# Altium schematic symbol library Diode.SchLib: 693 symbols (part 4 of 5)
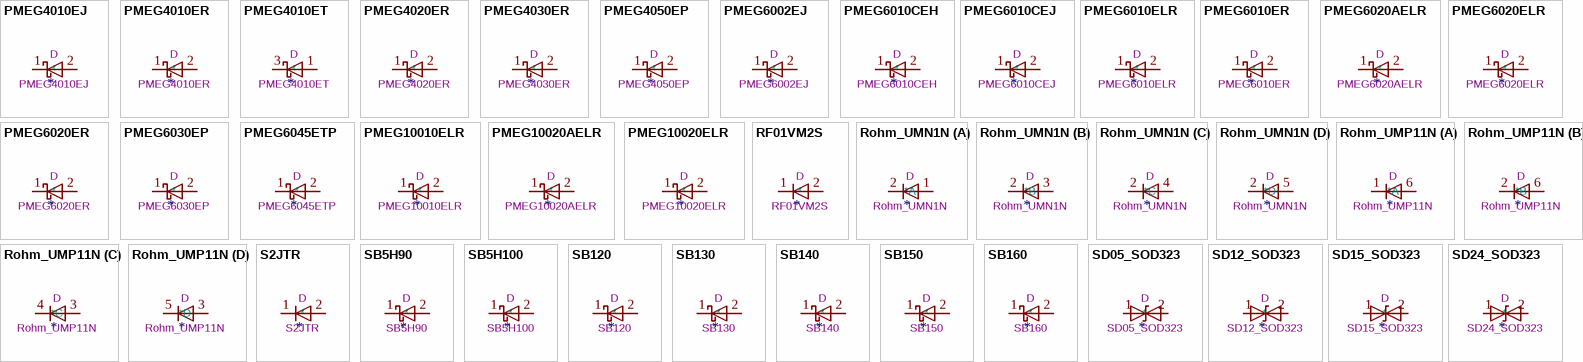
[diagram p21: symbols PMEG4010EJ to SD24_SOD323]

## SD12_SOD323
designator *  value SD12_SOD323  Reference: D
ki_keywords: transient voltage suppressor thyrector transil; ki_description: 12V, 450W Discrete Bidirectional TVS Diode, SOD-323; ki_fp_filters: D?SOD?323*; Footprint: Diode_SMD:D_SOD-323; Datasheet: https://www.littelfuse.com/~/media/electronics/datasheets/tvs_diode_arrays/littelfuse_tvs_diode_array_sd_c_datasheet.pdf.pdf
pins: 1 A1, 2 A2

## SD15_SOD323
designator *  value SD15_SOD323  Reference: D
ki_keywords: transient voltage suppressor thyrector transil; ki_description: 15V, 450W Discrete Bidirectional TVS Diode, SOD-323; ki_fp_filters: D?SOD?323*; Footprint: Diode_SMD:D_SOD-323; Datasheet: https://www.littelfuse.com/~/media/electronics/datasheets/tvs_diode_arrays/littelfuse_tvs_diode_array_sd_c_datasheet.pdf.pdf
pins: 1 A1, 2 A2

## SD24_SOD323
designator *  value SD24_SOD323  Reference: D
ki_keywords: transient voltage suppressor thyrector transil; ki_description: 24V, 450W Discrete Bidirectional TVS Diode, SOD-323; ki_fp_filters: D?SOD?323*; Footprint: Diode_SMD:D_SOD-323; Datasheet: https://www.littelfuse.com/~/media/electronics/datasheets/tvs_diode_arrays/littelfuse_tvs_diode_array_sd_c_datasheet.pdf.pdf
pins: 1 A1, 2 A2

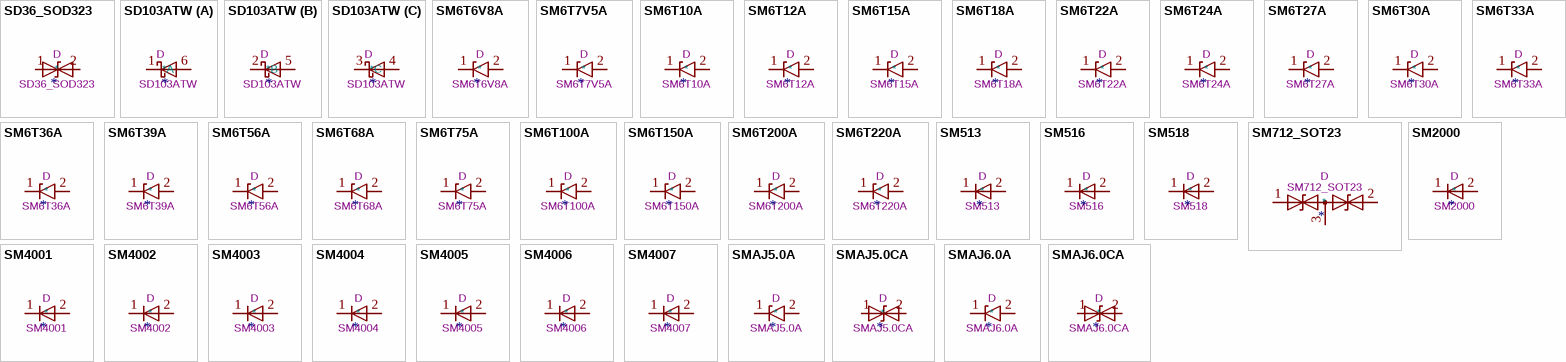
[diagram p13: symbols SD36_SOD323 to SMAJ6.0CA]

## SD36_SOD323
designator *  value SD36_SOD323  Reference: D
ki_keywords: transient voltage suppressor thyrector transil; ki_description: 36V, 450W Discrete Bidirectional TVS Diode, SOD-323; ki_fp_filters: D?SOD?323*; Footprint: Diode_SMD:D_SOD-323; Datasheet: https://www.littelfuse.com/~/media/electronics/datasheets/tvs_diode_arrays/littelfuse_tvs_diode_array_sd_c_datasheet.pdf.pdf
pins: 1 A1, 2 A2

## SD103ATW
designator *  value SD103ATW  Reference: D
ki_keywords: schottky barrier diode array; ki_description: Schottky Barrier Diode Array, SOT-363; ki_fp_filters: SOT?363*; Footprint: Package_TO_SOT_SMD:SOT-363_SC-70-6; Datasheet: https://www.diodes.com/assets/Datasheets/ds30374.pdf
part A pins: 1 K, 6 A
part B pins: 2 K, 5 A
part C pins: 3 K, 4 A

## SM6T6V8A
designator *  value SM6T6V8A  Reference: D
ki_keywords: diode TVS voltage suppressor; ki_description: 600W unidirectional Transil Transient Voltage Suppressor, 6.8Vrwm, DO-214AA; ki_fp_filters: D*SMB*; Footprint: Diode_SMD:D_SMB; Datasheet: https://www.st.com/resource/en/datasheet/sm6t.pdf
pins: 1 A1, 2 A2

## SM6T7V5A
designator *  value SM6T7V5A  Reference: D
ki_keywords: diode TVS voltage suppressor; ki_description: 600W unidirectional Transil Transient Voltage Suppressor, 7.5Vrwm, DO-214AA; ki_fp_filters: D*SMB*; Footprint: Diode_SMD:D_SMB; Datasheet: https://www.st.com/resource/en/datasheet/sm6t.pdf
pins: 1 A1, 2 A2

## SM6T10A
designator *  value SM6T10A  Reference: D
ki_keywords: diode TVS voltage suppressor; ki_description: 600W unidirectional Transil Transient Voltage Suppressor, 10Vrwm, DO-214AA; ki_fp_filters: D*SMB*; Footprint: Diode_SMD:D_SMB; Datasheet: https://www.st.com/resource/en/datasheet/sm6t.pdf
pins: 1 A1, 2 A2

## SM6T12A
designator *  value SM6T12A  Reference: D
ki_keywords: diode TVS voltage suppressor; ki_description: 600W unidirectional Transil Transient Voltage Suppressor, 12Vrwm, DO-214AA; ki_fp_filters: D*SMB*; Footprint: Diode_SMD:D_SMB; Datasheet: https://www.st.com/resource/en/datasheet/sm6t.pdf
pins: 1 A1, 2 A2

## SM6T15A
designator *  value SM6T15A  Reference: D
ki_keywords: diode TVS voltage suppressor; ki_description: 600W unidirectional Transil Transient Voltage Suppressor, 15Vrwm, DO-214AA; ki_fp_filters: D*SMB*; Footprint: Diode_SMD:D_SMB; Datasheet: https://www.st.com/resource/en/datasheet/sm6t.pdf
pins: 1 A1, 2 A2

## SM6T18A
designator *  value SM6T18A  Reference: D
ki_keywords: diode TVS voltage suppressor; ki_description: 600W unidirectional Transil Transient Voltage Suppressor, 18Vrwm, DO-214AA; ki_fp_filters: D*SMB*; Footprint: Diode_SMD:D_SMB; Datasheet: https://www.st.com/resource/en/datasheet/sm6t.pdf
pins: 1 A1, 2 A2

## SM6T22A
designator *  value SM6T22A  Reference: D
ki_keywords: diode TVS voltage suppressor; ki_description: 600W unidirectional Transil Transient Voltage Suppressor, 22Vrwm, DO-214AA; ki_fp_filters: D*SMB*; Footprint: Diode_SMD:D_SMB; Datasheet: https://www.st.com/resource/en/datasheet/sm6t.pdf
pins: 1 A1, 2 A2

## SM6T24A
designator *  value SM6T24A  Reference: D
ki_keywords: diode TVS voltage suppressor; ki_description: 600W unidirectional Transil Transient Voltage Suppressor, 24Vrwm, DO-214AA; ki_fp_filters: D*SMB*; Footprint: Diode_SMD:D_SMB; Datasheet: https://www.st.com/resource/en/datasheet/sm6t.pdf
pins: 1 A1, 2 A2

## SM6T27A
designator *  value SM6T27A  Reference: D
ki_keywords: diode TVS voltage suppressor; ki_description: 600W unidirectional Transil Transient Voltage Suppressor, 27Vrwm, DO-214AA; ki_fp_filters: D*SMB*; Footprint: Diode_SMD:D_SMB; Datasheet: https://www.st.com/resource/en/datasheet/sm6t.pdf
pins: 1 A1, 2 A2

## SM6T30A
designator *  value SM6T30A  Reference: D
ki_keywords: diode TVS voltage suppressor; ki_description: 600W unidirectional Transil Transient Voltage Suppressor, 30Vrwm, DO-214AA; ki_fp_filters: D*SMB*; Footprint: Diode_SMD:D_SMB; Datasheet: https://www.st.com/resource/en/datasheet/sm6t.pdf
pins: 1 A1, 2 A2

## SM6T33A
designator *  value SM6T33A  Reference: D
ki_keywords: diode TVS voltage suppressor; ki_description: 600W unidirectional Transil Transient Voltage Suppressor, 33Vrwm, DO-214AA; ki_fp_filters: D*SMB*; Footprint: Diode_SMD:D_SMB; Datasheet: https://www.st.com/resource/en/datasheet/sm6t.pdf
pins: 1 A1, 2 A2

## SM6T36A
designator *  value SM6T36A  Reference: D
ki_keywords: diode TVS voltage suppressor; ki_description: 600W unidirectional Transil Transient Voltage Suppressor, 36Vrwm, DO-214AA; ki_fp_filters: D*SMB*; Footprint: Diode_SMD:D_SMB; Datasheet: https://www.st.com/resource/en/datasheet/sm6t.pdf
pins: 1 A1, 2 A2

## SM6T39A
designator *  value SM6T39A  Reference: D
ki_keywords: diode TVS voltage suppressor; ki_description: 600W unidirectional Transil Transient Voltage Suppressor, 39Vrwm, DO-214AA; ki_fp_filters: D*SMB*; Footprint: Diode_SMD:D_SMB; Datasheet: https://www.st.com/resource/en/datasheet/sm6t.pdf
pins: 1 A1, 2 A2

## SM6T56A
designator *  value SM6T56A  Reference: D
ki_keywords: diode TVS voltage suppressor; ki_description: 600W unidirectional Transil Transient Voltage Suppressor, 56Vrwm, DO-214AA; ki_fp_filters: D*SMB*; Footprint: Diode_SMD:D_SMB; Datasheet: https://www.st.com/resource/en/datasheet/sm6t.pdf
pins: 1 A1, 2 A2

## SM6T68A
designator *  value SM6T68A  Reference: D
ki_keywords: diode TVS voltage suppressor; ki_description: 600W unidirectional Transil Transient Voltage Suppressor, 68Vrwm, DO-214AA; ki_fp_filters: D*SMB*; Footprint: Diode_SMD:D_SMB; Datasheet: https://www.st.com/resource/en/datasheet/sm6t.pdf
pins: 1 A1, 2 A2

## SM6T75A
designator *  value SM6T75A  Reference: D
ki_keywords: diode TVS voltage suppressor; ki_description: 600W unidirectional Transil Transient Voltage Suppressor, 75Vrwm, DO-214AA; ki_fp_filters: D*SMB*; Footprint: Diode_SMD:D_SMB; Datasheet: https://www.st.com/resource/en/datasheet/sm6t.pdf
pins: 1 A1, 2 A2

## SM6T100A
designator *  value SM6T100A  Reference: D
ki_keywords: diode TVS voltage suppressor; ki_description: 600W unidirectional Transil Transient Voltage Suppressor, 100Vrwm, DO-214AA; ki_fp_filters: D*SMB*; Footprint: Diode_SMD:D_SMB; Datasheet: https://www.st.com/resource/en/datasheet/sm6t.pdf
pins: 1 A1, 2 A2

## SM6T150A
designator *  value SM6T150A  Reference: D
ki_keywords: diode TVS voltage suppressor; ki_description: 600W unidirectional Transil Transient Voltage Suppressor, 150Vrwm, DO-214AA; ki_fp_filters: D*SMB*; Footprint: Diode_SMD:D_SMB; Datasheet: https://www.st.com/resource/en/datasheet/sm6t.pdf
pins: 1 A1, 2 A2

## SM6T200A
designator *  value SM6T200A  Reference: D
ki_keywords: diode TVS voltage suppressor; ki_description: 600W unidirectional Transil Transient Voltage Suppressor, 200Vrwm, DO-214AA; ki_fp_filters: D*SMB*; Footprint: Diode_SMD:D_SMB; Datasheet: https://www.st.com/resource/en/datasheet/sm6t.pdf
pins: 1 A1, 2 A2

## SM6T220A
designator *  value SM6T220A  Reference: D
ki_keywords: diode TVS voltage suppressor; ki_description: 600W unidirectional Transil Transient Voltage Suppressor, 220Vrwm, DO-214AA; ki_fp_filters: D*SMB*; Footprint: Diode_SMD:D_SMB; Datasheet: https://www.st.com/resource/en/datasheet/sm6t.pdf
pins: 1 A1, 2 A2

## SM513
designator *  value SM513  Reference: D
Sim.Pins: 1=K 2=A; ki_keywords: diode; ki_description: 130V 1A General Purpose Rectifier Diode, MELF; ki_fp_filters: D*MELF*; Footprint: Diode_SMD:D_MELF; Datasheet: http://cdn-reichelt.de/documents/datenblatt/A400/SMD1N400%23DIO.pdf; Sim.Device: D
pins: 1 K, 2 A

## SM516
designator *  value SM516  Reference: D
Sim.Pins: 1=K 2=A; ki_keywords: diode; ki_description: 1600V 1A General Purpose Rectifier Diode, MELF; ki_fp_filters: D*MELF*; Footprint: Diode_SMD:D_MELF; Datasheet: http://cdn-reichelt.de/documents/datenblatt/A400/SMD1N400%23DIO.pdf; Sim.Device: D
pins: 1 K, 2 A

## SM518
designator *  value SM518  Reference: D
Sim.Pins: 1=K 2=A; ki_keywords: diode; ki_description: 1800V 1A General Purpose Rectifier Diode, MELF; ki_fp_filters: D*MELF*; Footprint: Diode_SMD:D_MELF; Datasheet: http://cdn-reichelt.de/documents/datenblatt/A400/SMD1N400%23DIO.pdf; Sim.Device: D
pins: 1 K, 2 A

## SM712_SOT23
designator *  value SM712_SOT23  Reference: D
ki_keywords: transient voltage suppressor thyrector transil; ki_description: 7V/12V, 600W Asymmetrical TVS Diode Array, SOT-23; ki_fp_filters: SOT?23*; Footprint: Package_TO_SOT_SMD:SOT-23; Datasheet: https://www.littelfuse.com/~/media/electronics/datasheets/tvs_diode_arrays/littelfuse_tvs_diode_array_sm712_datasheet.pdf.pdf
pins: 1 A1, 2 A2, 3 common

## SM2000
designator *  value SM2000  Reference: D
Sim.Pins: 1=K 2=A; ki_keywords: diode; ki_description: 2000V 1A General Purpose Rectifier Diode, MELF; ki_fp_filters: D*MELF*; Footprint: Diode_SMD:D_MELF; Datasheet: http://cdn-reichelt.de/documents/datenblatt/A400/SMD1N400%23DIO.pdf; Sim.Device: D
pins: 1 K, 2 A

## SM4001
designator *  value SM4001  Reference: D
Sim.Pins: 1=K 2=A; ki_keywords: diode; ki_description: 50V 1A General Purpose Rectifier Diode, MELF; ki_fp_filters: D*MELF*; Footprint: Diode_SMD:D_MELF; Datasheet: http://cdn-reichelt.de/documents/datenblatt/A400/SMD1N400%23DIO.pdf; Sim.Device: D
pins: 1 K, 2 A

## SM4002
designator *  value SM4002  Reference: D
Sim.Pins: 1=K 2=A; ki_keywords: diode; ki_description: 100V 1A General Purpose Rectifier Diode, MELF; ki_fp_filters: D*MELF*; Footprint: Diode_SMD:D_MELF; Datasheet: http://cdn-reichelt.de/documents/datenblatt/A400/SMD1N400%23DIO.pdf; Sim.Device: D
pins: 1 K, 2 A

## SM4003
designator *  value SM4003  Reference: D
Sim.Pins: 1=K 2=A; ki_keywords: diode; ki_description: 200V 1A General Purpose Rectifier Diode, MELF; ki_fp_filters: D*MELF*; Footprint: Diode_SMD:D_MELF; Datasheet: http://cdn-reichelt.de/documents/datenblatt/A400/SMD1N400%23DIO.pdf; Sim.Device: D
pins: 1 K, 2 A

## SM4004
designator *  value SM4004  Reference: D
Sim.Pins: 1=K 2=A; ki_keywords: diode; ki_description: 400V 1A General Purpose Rectifier Diode, MELF; ki_fp_filters: D*MELF*; Footprint: Diode_SMD:D_MELF; Datasheet: http://cdn-reichelt.de/documents/datenblatt/A400/SMD1N400%23DIO.pdf; Sim.Device: D
pins: 1 K, 2 A

## SM4005
designator *  value SM4005  Reference: D
Sim.Pins: 1=K 2=A; ki_keywords: diode; ki_description: 600V 1A General Purpose Rectifier Diode, MELF; ki_fp_filters: D*MELF*; Footprint: Diode_SMD:D_MELF; Datasheet: http://cdn-reichelt.de/documents/datenblatt/A400/SMD1N400%23DIO.pdf; Sim.Device: D
pins: 1 K, 2 A

## SM4006
designator *  value SM4006  Reference: D
Sim.Pins: 1=K 2=A; ki_keywords: diode; ki_description: 800V 1A General Purpose Rectifier Diode, MELF; ki_fp_filters: D*MELF*; Footprint: Diode_SMD:D_MELF; Datasheet: http://cdn-reichelt.de/documents/datenblatt/A400/SMD1N400%23DIO.pdf; Sim.Device: D
pins: 1 K, 2 A

## SM4007
designator *  value SM4007  Reference: D
Sim.Pins: 1=K 2=A; ki_keywords: diode; ki_description: 1000V 1A General Purpose Rectifier Diode, MELF; ki_fp_filters: D*MELF*; Footprint: Diode_SMD:D_MELF; Datasheet: http://cdn-reichelt.de/documents/datenblatt/A400/SMD1N400%23DIO.pdf; Sim.Device: D
pins: 1 K, 2 A

## SMAJ5.0A
designator *  value SMAJ5.0A  Reference: D
ki_keywords: unidirectional diode TVS voltage suppressor; ki_description: 400W unidirectional Transient Voltage Suppressor, 5.0Vr, SMA(DO-214AC); ki_fp_filters: D*SMA*; Footprint: Diode_SMD:D_SMA; Datasheet: https://www.littelfuse.com/media?resourcetype=datasheets&itemid=75e32973-b177-4ee3-a0ff-cedaf1abdb93&filename=smaj-datasheet
pins: 1 A1, 2 A2

## SMAJ5.0CA
designator *  value SMAJ5.0CA  Reference: D
ki_keywords: bidirectional diode TVS voltage suppressor; ki_description: 400W bidirectional Transient Voltage Suppressor, 5.0Vr, SMA(DO-214AC); ki_fp_filters: D*SMA*; Footprint: Diode_SMD:D_SMA; Datasheet: https://www.littelfuse.com/media?resourcetype=datasheets&itemid=75e32973-b177-4ee3-a0ff-cedaf1abdb93&filename=smaj-datasheet
pins: 1 A1, 2 A2

## SMAJ6.0A
designator *  value SMAJ6.0A  Reference: D
ki_keywords: unidirectional diode TVS voltage suppressor; ki_description: 400W unidirectional Transient Voltage Suppressor, 6.0Vr, SMA(DO-214AC); ki_fp_filters: D*SMA*; Footprint: Diode_SMD:D_SMA; Datasheet: https://www.littelfuse.com/media?resourcetype=datasheets&itemid=75e32973-b177-4ee3-a0ff-cedaf1abdb93&filename=smaj-datasheet
pins: 1 A1, 2 A2

## SMAJ6.0CA
designator *  value SMAJ6.0CA  Reference: D
ki_keywords: bidirectional diode TVS voltage suppressor; ki_description: 400W bidirectional Transient Voltage Suppressor, 6.0Vr, SMA(DO-214AC); ki_fp_filters: D*SMA*; Footprint: Diode_SMD:D_SMA; Datasheet: https://www.littelfuse.com/media?resourcetype=datasheets&itemid=75e32973-b177-4ee3-a0ff-cedaf1abdb93&filename=smaj-datasheet
pins: 1 A1, 2 A2

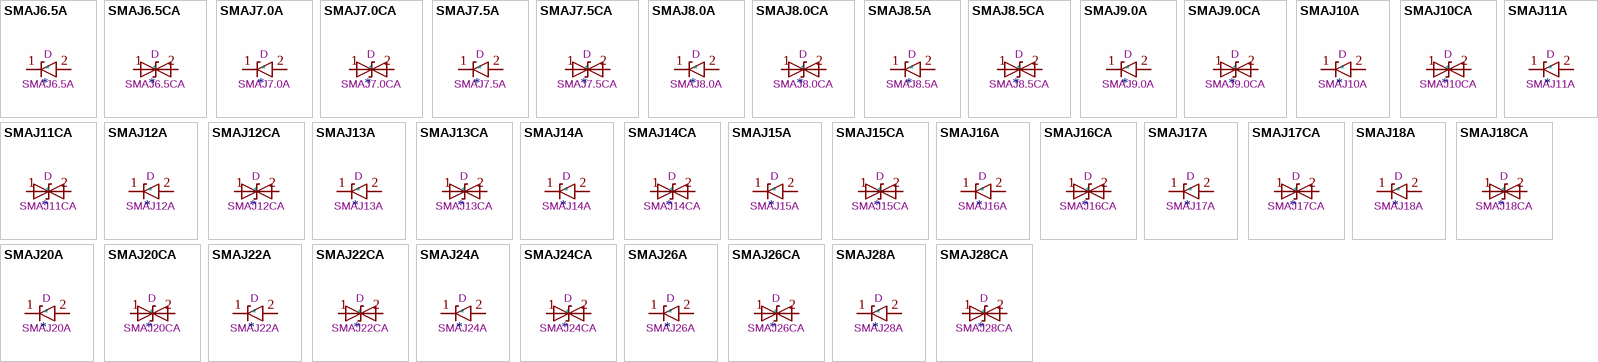
[diagram p14: symbols SMAJ6.5A to SMAJ28CA]

## SMAJ6.5A
designator *  value SMAJ6.5A  Reference: D
ki_keywords: unidirectional diode TVS voltage suppressor; ki_description: 400W unidirectional Transient Voltage Suppressor, 6.5Vr, SMA(DO-214AC); ki_fp_filters: D*SMA*; Footprint: Diode_SMD:D_SMA; Datasheet: https://www.littelfuse.com/media?resourcetype=datasheets&itemid=75e32973-b177-4ee3-a0ff-cedaf1abdb93&filename=smaj-datasheet
pins: 1 A1, 2 A2

## SMAJ6.5CA
designator *  value SMAJ6.5CA  Reference: D
ki_keywords: bidirectional diode TVS voltage suppressor; ki_description: 400W bidirectional Transient Voltage Suppressor, 6.5Vr, SMA(DO-214AC); ki_fp_filters: D*SMA*; Footprint: Diode_SMD:D_SMA; Datasheet: https://www.littelfuse.com/media?resourcetype=datasheets&itemid=75e32973-b177-4ee3-a0ff-cedaf1abdb93&filename=smaj-datasheet
pins: 1 A1, 2 A2

## SMAJ7.0A
designator *  value SMAJ7.0A  Reference: D
ki_keywords: unidirectional diode TVS voltage suppressor; ki_description: 400W unidirectional Transient Voltage Suppressor, 7.0Vr, SMA(DO-214AC); ki_fp_filters: D*SMA*; Footprint: Diode_SMD:D_SMA; Datasheet: https://www.littelfuse.com/media?resourcetype=datasheets&itemid=75e32973-b177-4ee3-a0ff-cedaf1abdb93&filename=smaj-datasheet
pins: 1 A1, 2 A2

## SMAJ7.0CA
designator *  value SMAJ7.0CA  Reference: D
ki_keywords: bidirectional diode TVS voltage suppressor; ki_description: 400W bidirectional Transient Voltage Suppressor, 7.0Vr, SMA(DO-214AC); ki_fp_filters: D*SMA*; Footprint: Diode_SMD:D_SMA; Datasheet: https://www.littelfuse.com/media?resourcetype=datasheets&itemid=75e32973-b177-4ee3-a0ff-cedaf1abdb93&filename=smaj-datasheet
pins: 1 A1, 2 A2

## SMAJ7.5A
designator *  value SMAJ7.5A  Reference: D
ki_keywords: unidirectional diode TVS voltage suppressor; ki_description: 400W unidirectional Transient Voltage Suppressor, 7.5Vr, SMA(DO-214AC); ki_fp_filters: D*SMA*; Footprint: Diode_SMD:D_SMA; Datasheet: https://www.littelfuse.com/media?resourcetype=datasheets&itemid=75e32973-b177-4ee3-a0ff-cedaf1abdb93&filename=smaj-datasheet
pins: 1 A1, 2 A2

## SMAJ7.5CA
designator *  value SMAJ7.5CA  Reference: D
ki_keywords: bidirectional diode TVS voltage suppressor; ki_description: 400W bidirectional Transient Voltage Suppressor, 7.5Vr, SMA(DO-214AC); ki_fp_filters: D*SMA*; Footprint: Diode_SMD:D_SMA; Datasheet: https://www.littelfuse.com/media?resourcetype=datasheets&itemid=75e32973-b177-4ee3-a0ff-cedaf1abdb93&filename=smaj-datasheet
pins: 1 A1, 2 A2

## SMAJ8.0A
designator *  value SMAJ8.0A  Reference: D
ki_keywords: unidirectional diode TVS voltage suppressor; ki_description: 400W unidirectional Transient Voltage Suppressor, 8.0Vr, SMA(DO-214AC); ki_fp_filters: D*SMA*; Footprint: Diode_SMD:D_SMA; Datasheet: https://www.littelfuse.com/media?resourcetype=datasheets&itemid=75e32973-b177-4ee3-a0ff-cedaf1abdb93&filename=smaj-datasheet
pins: 1 A1, 2 A2

## SMAJ8.0CA
designator *  value SMAJ8.0CA  Reference: D
ki_keywords: bidirectional diode TVS voltage suppressor; ki_description: 400W bidirectional Transient Voltage Suppressor, 8.0Vr, SMA(DO-214AC); ki_fp_filters: D*SMA*; Footprint: Diode_SMD:D_SMA; Datasheet: https://www.littelfuse.com/media?resourcetype=datasheets&itemid=75e32973-b177-4ee3-a0ff-cedaf1abdb93&filename=smaj-datasheet
pins: 1 A1, 2 A2

## SMAJ8.5A
designator *  value SMAJ8.5A  Reference: D
ki_keywords: unidirectional diode TVS voltage suppressor; ki_description: 400W unidirectional Transient Voltage Suppressor, 8.5Vr, SMA(DO-214AC); ki_fp_filters: D*SMA*; Footprint: Diode_SMD:D_SMA; Datasheet: https://www.littelfuse.com/media?resourcetype=datasheets&itemid=75e32973-b177-4ee3-a0ff-cedaf1abdb93&filename=smaj-datasheet
pins: 1 A1, 2 A2

## SMAJ8.5CA
designator *  value SMAJ8.5CA  Reference: D
ki_keywords: bidirectional diode TVS voltage suppressor; ki_description: 400W bidirectional Transient Voltage Suppressor, 8.5Vr, SMA(DO-214AC); ki_fp_filters: D*SMA*; Footprint: Diode_SMD:D_SMA; Datasheet: https://www.littelfuse.com/media?resourcetype=datasheets&itemid=75e32973-b177-4ee3-a0ff-cedaf1abdb93&filename=smaj-datasheet
pins: 1 A1, 2 A2

## SMAJ9.0A
designator *  value SMAJ9.0A  Reference: D
ki_keywords: unidirectional diode TVS voltage suppressor; ki_description: 400W unidirectional Transient Voltage Suppressor, 9.0Vr, SMA(DO-214AC); ki_fp_filters: D*SMA*; Footprint: Diode_SMD:D_SMA; Datasheet: https://www.littelfuse.com/media?resourcetype=datasheets&itemid=75e32973-b177-4ee3-a0ff-cedaf1abdb93&filename=smaj-datasheet
pins: 1 A1, 2 A2

## SMAJ9.0CA
designator *  value SMAJ9.0CA  Reference: D
ki_keywords: bidirectional diode TVS voltage suppressor; ki_description: 400W bidirectional Transient Voltage Suppressor, 9.0Vr, SMA(DO-214AC); ki_fp_filters: D*SMA*; Footprint: Diode_SMD:D_SMA; Datasheet: https://www.littelfuse.com/media?resourcetype=datasheets&itemid=75e32973-b177-4ee3-a0ff-cedaf1abdb93&filename=smaj-datasheet
pins: 1 A1, 2 A2

## SMAJ10A
designator *  value SMAJ10A  Reference: D
ki_keywords: unidirectional diode TVS voltage suppressor; ki_description: 400W unidirectional Transient Voltage Suppressor, 10.0Vr, SMA(DO-214AC); ki_fp_filters: D*SMA*; Footprint: Diode_SMD:D_SMA; Datasheet: https://www.littelfuse.com/media?resourcetype=datasheets&itemid=75e32973-b177-4ee3-a0ff-cedaf1abdb93&filename=smaj-datasheet
pins: 1 A1, 2 A2

## SMAJ10CA
designator *  value SMAJ10CA  Reference: D
ki_keywords: bidirectional diode TVS voltage suppressor; ki_description: 400W bidirectional Transient Voltage Suppressor, 10.0Vr, SMA(DO-214AC); ki_fp_filters: D*SMA*; Footprint: Diode_SMD:D_SMA; Datasheet: https://www.littelfuse.com/media?resourcetype=datasheets&itemid=75e32973-b177-4ee3-a0ff-cedaf1abdb93&filename=smaj-datasheet
pins: 1 A1, 2 A2

## SMAJ11A
designator *  value SMAJ11A  Reference: D
ki_keywords: unidirectional diode TVS voltage suppressor; ki_description: 400W unidirectional Transient Voltage Suppressor, 11.0Vr, SMA(DO-214AC); ki_fp_filters: D*SMA*; Footprint: Diode_SMD:D_SMA; Datasheet: https://www.littelfuse.com/media?resourcetype=datasheets&itemid=75e32973-b177-4ee3-a0ff-cedaf1abdb93&filename=smaj-datasheet
pins: 1 A1, 2 A2

## SMAJ11CA
designator *  value SMAJ11CA  Reference: D
ki_keywords: bidirectional diode TVS voltage suppressor; ki_description: 400W bidirectional Transient Voltage Suppressor, 11.0Vr, SMA(DO-214AC); ki_fp_filters: D*SMA*; Footprint: Diode_SMD:D_SMA; Datasheet: https://www.littelfuse.com/media?resourcetype=datasheets&itemid=75e32973-b177-4ee3-a0ff-cedaf1abdb93&filename=smaj-datasheet
pins: 1 A1, 2 A2

## SMAJ12A
designator *  value SMAJ12A  Reference: D
ki_keywords: unidirectional diode TVS voltage suppressor; ki_description: 400W unidirectional Transient Voltage Suppressor, 12.0Vr, SMA(DO-214AC); ki_fp_filters: D*SMA*; Footprint: Diode_SMD:D_SMA; Datasheet: https://www.littelfuse.com/media?resourcetype=datasheets&itemid=75e32973-b177-4ee3-a0ff-cedaf1abdb93&filename=smaj-datasheet
pins: 1 A1, 2 A2

## SMAJ12CA
designator *  value SMAJ12CA  Reference: D
ki_keywords: bidirectional diode TVS voltage suppressor; ki_description: 400W bidirectional Transient Voltage Suppressor, 12.0Vr, SMA(DO-214AC); ki_fp_filters: D*SMA*; Footprint: Diode_SMD:D_SMA; Datasheet: https://www.littelfuse.com/media?resourcetype=datasheets&itemid=75e32973-b177-4ee3-a0ff-cedaf1abdb93&filename=smaj-datasheet
pins: 1 A1, 2 A2

## SMAJ13A
designator *  value SMAJ13A  Reference: D
ki_keywords: unidirectional diode TVS voltage suppressor; ki_description: 400W unidirectional Transient Voltage Suppressor, 13.0Vr, SMA(DO-214AC); ki_fp_filters: D*SMA*; Footprint: Diode_SMD:D_SMA; Datasheet: https://www.littelfuse.com/media?resourcetype=datasheets&itemid=75e32973-b177-4ee3-a0ff-cedaf1abdb93&filename=smaj-datasheet
pins: 1 A1, 2 A2

## SMAJ13CA
designator *  value SMAJ13CA  Reference: D
ki_keywords: bidirectional diode TVS voltage suppressor; ki_description: 400W bidirectional Transient Voltage Suppressor, 13.0Vr, SMA(DO-214AC); ki_fp_filters: D*SMA*; Footprint: Diode_SMD:D_SMA; Datasheet: https://www.littelfuse.com/media?resourcetype=datasheets&itemid=75e32973-b177-4ee3-a0ff-cedaf1abdb93&filename=smaj-datasheet
pins: 1 A1, 2 A2

## SMAJ14A
designator *  value SMAJ14A  Reference: D
ki_keywords: unidirectional diode TVS voltage suppressor; ki_description: 400W unidirectional Transient Voltage Suppressor, 14.0Vr, SMA(DO-214AC); ki_fp_filters: D*SMA*; Footprint: Diode_SMD:D_SMA; Datasheet: https://www.littelfuse.com/media?resourcetype=datasheets&itemid=75e32973-b177-4ee3-a0ff-cedaf1abdb93&filename=smaj-datasheet
pins: 1 A1, 2 A2

## SMAJ14CA
designator *  value SMAJ14CA  Reference: D
ki_keywords: bidirectional diode TVS voltage suppressor; ki_description: 400W bidirectional Transient Voltage Suppressor, 14.0Vr, SMA(DO-214AC); ki_fp_filters: D*SMA*; Footprint: Diode_SMD:D_SMA; Datasheet: https://www.littelfuse.com/media?resourcetype=datasheets&itemid=75e32973-b177-4ee3-a0ff-cedaf1abdb93&filename=smaj-datasheet
pins: 1 A1, 2 A2

## SMAJ15A
designator *  value SMAJ15A  Reference: D
ki_keywords: unidirectional diode TVS voltage suppressor; ki_description: 400W unidirectional Transient Voltage Suppressor, 15.0Vr, SMA(DO-214AC); ki_fp_filters: D*SMA*; Footprint: Diode_SMD:D_SMA; Datasheet: https://www.littelfuse.com/media?resourcetype=datasheets&itemid=75e32973-b177-4ee3-a0ff-cedaf1abdb93&filename=smaj-datasheet
pins: 1 A1, 2 A2

## SMAJ15CA
designator *  value SMAJ15CA  Reference: D
ki_keywords: bidirectional diode TVS voltage suppressor; ki_description: 400W bidirectional Transient Voltage Suppressor, 15.0Vr, SMA(DO-214AC); ki_fp_filters: D*SMA*; Footprint: Diode_SMD:D_SMA; Datasheet: https://www.littelfuse.com/media?resourcetype=datasheets&itemid=75e32973-b177-4ee3-a0ff-cedaf1abdb93&filename=smaj-datasheet
pins: 1 A1, 2 A2

## SMAJ16A
designator *  value SMAJ16A  Reference: D
ki_keywords: unidirectional diode TVS voltage suppressor; ki_description: 400W unidirectional Transient Voltage Suppressor, 16.0Vr, SMA(DO-214AC); ki_fp_filters: D*SMA*; Footprint: Diode_SMD:D_SMA; Datasheet: https://www.littelfuse.com/media?resourcetype=datasheets&itemid=75e32973-b177-4ee3-a0ff-cedaf1abdb93&filename=smaj-datasheet
pins: 1 A1, 2 A2

## SMAJ16CA
designator *  value SMAJ16CA  Reference: D
ki_keywords: bidirectional diode TVS voltage suppressor; ki_description: 400W bidirectional Transient Voltage Suppressor, 16.0Vr, SMA(DO-214AC); ki_fp_filters: D*SMA*; Footprint: Diode_SMD:D_SMA; Datasheet: https://www.littelfuse.com/media?resourcetype=datasheets&itemid=75e32973-b177-4ee3-a0ff-cedaf1abdb93&filename=smaj-datasheet
pins: 1 A1, 2 A2

## SMAJ17A
designator *  value SMAJ17A  Reference: D
ki_keywords: unidirectional diode TVS voltage suppressor; ki_description: 400W unidirectional Transient Voltage Suppressor, 17.0Vr, SMA(DO-214AC); ki_fp_filters: D*SMA*; Footprint: Diode_SMD:D_SMA; Datasheet: https://www.littelfuse.com/media?resourcetype=datasheets&itemid=75e32973-b177-4ee3-a0ff-cedaf1abdb93&filename=smaj-datasheet
pins: 1 A1, 2 A2

## SMAJ17CA
designator *  value SMAJ17CA  Reference: D
ki_keywords: bidirectional diode TVS voltage suppressor; ki_description: 400W bidirectional Transient Voltage Suppressor, 17.0Vr, SMA(DO-214AC); ki_fp_filters: D*SMA*; Footprint: Diode_SMD:D_SMA; Datasheet: https://www.littelfuse.com/media?resourcetype=datasheets&itemid=75e32973-b177-4ee3-a0ff-cedaf1abdb93&filename=smaj-datasheet
pins: 1 A1, 2 A2

## SMAJ18A
designator *  value SMAJ18A  Reference: D
ki_keywords: unidirectional diode TVS voltage suppressor; ki_description: 400W unidirectional Transient Voltage Suppressor, 18.0Vr, SMA(DO-214AC); ki_fp_filters: D*SMA*; Footprint: Diode_SMD:D_SMA; Datasheet: https://www.littelfuse.com/media?resourcetype=datasheets&itemid=75e32973-b177-4ee3-a0ff-cedaf1abdb93&filename=smaj-datasheet
pins: 1 A1, 2 A2

## SMAJ18CA
designator *  value SMAJ18CA  Reference: D
ki_keywords: bidirectional diode TVS voltage suppressor; ki_description: 400W bidirectional Transient Voltage Suppressor, 18.0Vr, SMA(DO-214AC); ki_fp_filters: D*SMA*; Footprint: Diode_SMD:D_SMA; Datasheet: https://www.littelfuse.com/media?resourcetype=datasheets&itemid=75e32973-b177-4ee3-a0ff-cedaf1abdb93&filename=smaj-datasheet
pins: 1 A1, 2 A2

## SMAJ20A
designator *  value SMAJ20A  Reference: D
ki_keywords: unidirectional diode TVS voltage suppressor; ki_description: 400W unidirectional Transient Voltage Suppressor, 20.0Vr, SMA(DO-214AC); ki_fp_filters: D*SMA*; Footprint: Diode_SMD:D_SMA; Datasheet: https://www.littelfuse.com/media?resourcetype=datasheets&itemid=75e32973-b177-4ee3-a0ff-cedaf1abdb93&filename=smaj-datasheet
pins: 1 A1, 2 A2

## SMAJ20CA
designator *  value SMAJ20CA  Reference: D
ki_keywords: bidirectional diode TVS voltage suppressor; ki_description: 400W bidirectional Transient Voltage Suppressor, 20.0Vr, SMA(DO-214AC); ki_fp_filters: D*SMA*; Footprint: Diode_SMD:D_SMA; Datasheet: https://www.littelfuse.com/media?resourcetype=datasheets&itemid=75e32973-b177-4ee3-a0ff-cedaf1abdb93&filename=smaj-datasheet
pins: 1 A1, 2 A2

## SMAJ22A
designator *  value SMAJ22A  Reference: D
ki_keywords: unidirectional diode TVS voltage suppressor; ki_description: 400W unidirectional Transient Voltage Suppressor, 22.0Vr, SMA(DO-214AC); ki_fp_filters: D*SMA*; Footprint: Diode_SMD:D_SMA; Datasheet: https://www.littelfuse.com/media?resourcetype=datasheets&itemid=75e32973-b177-4ee3-a0ff-cedaf1abdb93&filename=smaj-datasheet
pins: 1 A1, 2 A2

## SMAJ22CA
designator *  value SMAJ22CA  Reference: D
ki_keywords: bidirectional diode TVS voltage suppressor; ki_description: 400W bidirectional Transient Voltage Suppressor, 22.0Vr, SMA(DO-214AC); ki_fp_filters: D*SMA*; Footprint: Diode_SMD:D_SMA; Datasheet: https://www.littelfuse.com/media?resourcetype=datasheets&itemid=75e32973-b177-4ee3-a0ff-cedaf1abdb93&filename=smaj-datasheet
pins: 1 A1, 2 A2

## SMAJ24A
designator *  value SMAJ24A  Reference: D
ki_keywords: unidirectional diode TVS voltage suppressor; ki_description: 400W unidirectional Transient Voltage Suppressor, 24.0Vr, SMA(DO-214AC); ki_fp_filters: D*SMA*; Footprint: Diode_SMD:D_SMA; Datasheet: https://www.littelfuse.com/media?resourcetype=datasheets&itemid=75e32973-b177-4ee3-a0ff-cedaf1abdb93&filename=smaj-datasheet
pins: 1 A1, 2 A2

## SMAJ24CA
designator *  value SMAJ24CA  Reference: D
ki_keywords: bidirectional diode TVS voltage suppressor; ki_description: 400W bidirectional Transient Voltage Suppressor, 24.0Vr, SMA(DO-214AC); ki_fp_filters: D*SMA*; Footprint: Diode_SMD:D_SMA; Datasheet: https://www.littelfuse.com/media?resourcetype=datasheets&itemid=75e32973-b177-4ee3-a0ff-cedaf1abdb93&filename=smaj-datasheet
pins: 1 A1, 2 A2

## SMAJ26A
designator *  value SMAJ26A  Reference: D
ki_keywords: unidirectional diode TVS voltage suppressor; ki_description: 400W unidirectional Transient Voltage Suppressor, 26.0Vr, SMA(DO-214AC); ki_fp_filters: D*SMA*; Footprint: Diode_SMD:D_SMA; Datasheet: https://www.littelfuse.com/media?resourcetype=datasheets&itemid=75e32973-b177-4ee3-a0ff-cedaf1abdb93&filename=smaj-datasheet
pins: 1 A1, 2 A2

## SMAJ26CA
designator *  value SMAJ26CA  Reference: D
ki_keywords: bidirectional diode TVS voltage suppressor; ki_description: 400W bidirectional Transient Voltage Suppressor, 26.0Vr, SMA(DO-214AC); ki_fp_filters: D*SMA*; Footprint: Diode_SMD:D_SMA; Datasheet: https://www.littelfuse.com/media?resourcetype=datasheets&itemid=75e32973-b177-4ee3-a0ff-cedaf1abdb93&filename=smaj-datasheet
pins: 1 A1, 2 A2

## SMAJ28A
designator *  value SMAJ28A  Reference: D
ki_keywords: unidirectional diode TVS voltage suppressor; ki_description: 400W unidirectional Transient Voltage Suppressor, 28.0Vr, SMA(DO-214AC); ki_fp_filters: D*SMA*; Footprint: Diode_SMD:D_SMA; Datasheet: https://www.littelfuse.com/media?resourcetype=datasheets&itemid=75e32973-b177-4ee3-a0ff-cedaf1abdb93&filename=smaj-datasheet
pins: 1 A1, 2 A2

## SMAJ28CA
designator *  value SMAJ28CA  Reference: D
ki_keywords: bidirectional diode TVS voltage suppressor; ki_description: 400W bidirectional Transient Voltage Suppressor, 28.0Vr, SMA(DO-214AC); ki_fp_filters: D*SMA*; Footprint: Diode_SMD:D_SMA; Datasheet: https://www.littelfuse.com/media?resourcetype=datasheets&itemid=75e32973-b177-4ee3-a0ff-cedaf1abdb93&filename=smaj-datasheet
pins: 1 A1, 2 A2

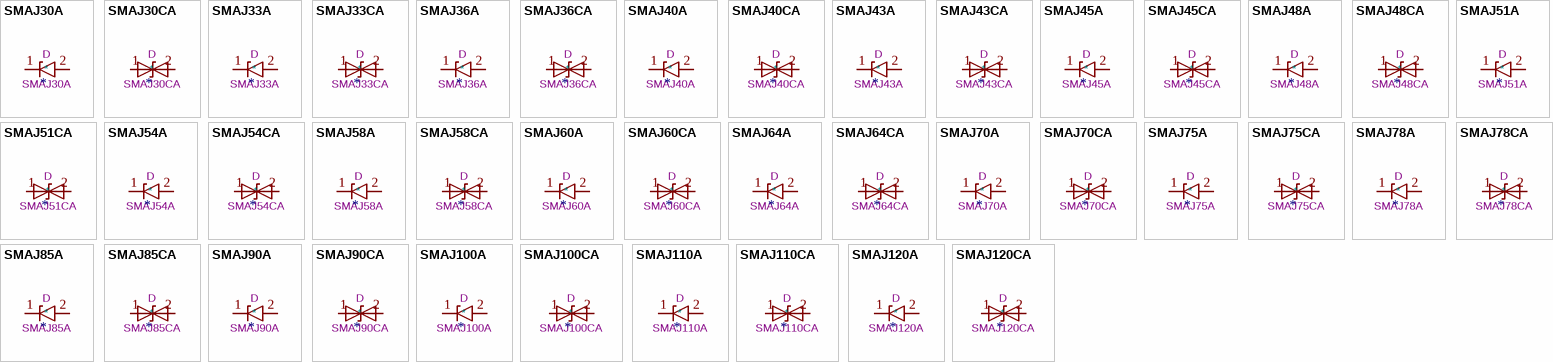
[diagram p15: symbols SMAJ30A to SMAJ120CA]

## SMAJ30A
designator *  value SMAJ30A  Reference: D
ki_keywords: unidirectional diode TVS voltage suppressor; ki_description: 400W unidirectional Transient Voltage Suppressor, 30.0Vr, SMA(DO-214AC); ki_fp_filters: D*SMA*; Footprint: Diode_SMD:D_SMA; Datasheet: https://www.littelfuse.com/media?resourcetype=datasheets&itemid=75e32973-b177-4ee3-a0ff-cedaf1abdb93&filename=smaj-datasheet
pins: 1 A1, 2 A2

## SMAJ30CA
designator *  value SMAJ30CA  Reference: D
ki_keywords: bidirectional diode TVS voltage suppressor; ki_description: 400W bidirectional Transient Voltage Suppressor, 30.0Vr, SMA(DO-214AC); ki_fp_filters: D*SMA*; Footprint: Diode_SMD:D_SMA; Datasheet: https://www.littelfuse.com/media?resourcetype=datasheets&itemid=75e32973-b177-4ee3-a0ff-cedaf1abdb93&filename=smaj-datasheet
pins: 1 A1, 2 A2

## SMAJ33A
designator *  value SMAJ33A  Reference: D
ki_keywords: unidirectional diode TVS voltage suppressor; ki_description: 400W unidirectional Transient Voltage Suppressor, 33.0Vr, SMA(DO-214AC); ki_fp_filters: D*SMA*; Footprint: Diode_SMD:D_SMA; Datasheet: https://www.littelfuse.com/media?resourcetype=datasheets&itemid=75e32973-b177-4ee3-a0ff-cedaf1abdb93&filename=smaj-datasheet
pins: 1 A1, 2 A2

## SMAJ33CA
designator *  value SMAJ33CA  Reference: D
ki_keywords: bidirectional diode TVS voltage suppressor; ki_description: 400W bidirectional Transient Voltage Suppressor, 33.0Vr, SMA(DO-214AC); ki_fp_filters: D*SMA*; Footprint: Diode_SMD:D_SMA; Datasheet: https://www.littelfuse.com/media?resourcetype=datasheets&itemid=75e32973-b177-4ee3-a0ff-cedaf1abdb93&filename=smaj-datasheet
pins: 1 A1, 2 A2

## SMAJ36A
designator *  value SMAJ36A  Reference: D
ki_keywords: unidirectional diode TVS voltage suppressor; ki_description: 400W unidirectional Transient Voltage Suppressor, 36.0Vr, SMA(DO-214AC); ki_fp_filters: D*SMA*; Footprint: Diode_SMD:D_SMA; Datasheet: https://www.littelfuse.com/media?resourcetype=datasheets&itemid=75e32973-b177-4ee3-a0ff-cedaf1abdb93&filename=smaj-datasheet
pins: 1 A1, 2 A2

## SMAJ36CA
designator *  value SMAJ36CA  Reference: D
ki_keywords: bidirectional diode TVS voltage suppressor; ki_description: 400W bidirectional Transient Voltage Suppressor, 36.0Vr, SMA(DO-214AC); ki_fp_filters: D*SMA*; Footprint: Diode_SMD:D_SMA; Datasheet: https://www.littelfuse.com/media?resourcetype=datasheets&itemid=75e32973-b177-4ee3-a0ff-cedaf1abdb93&filename=smaj-datasheet
pins: 1 A1, 2 A2

## SMAJ40A
designator *  value SMAJ40A  Reference: D
ki_keywords: unidirectional diode TVS voltage suppressor; ki_description: 400W unidirectional Transient Voltage Suppressor, 40.0Vr, SMA(DO-214AC); ki_fp_filters: D*SMA*; Footprint: Diode_SMD:D_SMA; Datasheet: https://www.littelfuse.com/media?resourcetype=datasheets&itemid=75e32973-b177-4ee3-a0ff-cedaf1abdb93&filename=smaj-datasheet
pins: 1 A1, 2 A2

## SMAJ40CA
designator *  value SMAJ40CA  Reference: D
ki_keywords: bidirectional diode TVS voltage suppressor; ki_description: 400W bidirectional Transient Voltage Suppressor, 40.0Vr, SMA(DO-214AC); ki_fp_filters: D*SMA*; Footprint: Diode_SMD:D_SMA; Datasheet: https://www.littelfuse.com/media?resourcetype=datasheets&itemid=75e32973-b177-4ee3-a0ff-cedaf1abdb93&filename=smaj-datasheet
pins: 1 A1, 2 A2

## SMAJ43A
designator *  value SMAJ43A  Reference: D
ki_keywords: unidirectional diode TVS voltage suppressor; ki_description: 400W unidirectional Transient Voltage Suppressor, 43.0Vr, SMA(DO-214AC); ki_fp_filters: D*SMA*; Footprint: Diode_SMD:D_SMA; Datasheet: https://www.littelfuse.com/media?resourcetype=datasheets&itemid=75e32973-b177-4ee3-a0ff-cedaf1abdb93&filename=smaj-datasheet
pins: 1 A1, 2 A2

## SMAJ43CA
designator *  value SMAJ43CA  Reference: D
ki_keywords: bidirectional diode TVS voltage suppressor; ki_description: 400W bidirectional Transient Voltage Suppressor, 43.0Vr, SMA(DO-214AC); ki_fp_filters: D*SMA*; Footprint: Diode_SMD:D_SMA; Datasheet: https://www.littelfuse.com/media?resourcetype=datasheets&itemid=75e32973-b177-4ee3-a0ff-cedaf1abdb93&filename=smaj-datasheet
pins: 1 A1, 2 A2

## SMAJ45A
designator *  value SMAJ45A  Reference: D
ki_keywords: unidirectional diode TVS voltage suppressor; ki_description: 400W unidirectional Transient Voltage Suppressor, 45.0Vr, SMA(DO-214AC); ki_fp_filters: D*SMA*; Footprint: Diode_SMD:D_SMA; Datasheet: https://www.littelfuse.com/media?resourcetype=datasheets&itemid=75e32973-b177-4ee3-a0ff-cedaf1abdb93&filename=smaj-datasheet
pins: 1 A1, 2 A2

## SMAJ45CA
designator *  value SMAJ45CA  Reference: D
ki_keywords: bidirectional diode TVS voltage suppressor; ki_description: 400W bidirectional Transient Voltage Suppressor, 45.0Vr, SMA(DO-214AC); ki_fp_filters: D*SMA*; Footprint: Diode_SMD:D_SMA; Datasheet: https://www.littelfuse.com/media?resourcetype=datasheets&itemid=75e32973-b177-4ee3-a0ff-cedaf1abdb93&filename=smaj-datasheet
pins: 1 A1, 2 A2

## SMAJ48A
designator *  value SMAJ48A  Reference: D
ki_keywords: unidirectional diode TVS voltage suppressor; ki_description: 400W unidirectional Transient Voltage Suppressor, 48.0Vr, SMA(DO-214AC); ki_fp_filters: D*SMA*; Footprint: Diode_SMD:D_SMA; Datasheet: https://www.littelfuse.com/media?resourcetype=datasheets&itemid=75e32973-b177-4ee3-a0ff-cedaf1abdb93&filename=smaj-datasheet
pins: 1 A1, 2 A2

## SMAJ48CA
designator *  value SMAJ48CA  Reference: D
ki_keywords: bidirectional diode TVS voltage suppressor; ki_description: 400W bidirectional Transient Voltage Suppressor, 48.0Vr, SMA(DO-214AC); ki_fp_filters: D*SMA*; Footprint: Diode_SMD:D_SMA; Datasheet: https://www.littelfuse.com/media?resourcetype=datasheets&itemid=75e32973-b177-4ee3-a0ff-cedaf1abdb93&filename=smaj-datasheet
pins: 1 A1, 2 A2

## SMAJ51A
designator *  value SMAJ51A  Reference: D
ki_keywords: unidirectional diode TVS voltage suppressor; ki_description: 400W unidirectional Transient Voltage Suppressor, 51.0Vr, SMA(DO-214AC); ki_fp_filters: D*SMA*; Footprint: Diode_SMD:D_SMA; Datasheet: https://www.littelfuse.com/media?resourcetype=datasheets&itemid=75e32973-b177-4ee3-a0ff-cedaf1abdb93&filename=smaj-datasheet
pins: 1 A1, 2 A2

## SMAJ51CA
designator *  value SMAJ51CA  Reference: D
ki_keywords: bidirectional diode TVS voltage suppressor; ki_description: 400W bidirectional Transient Voltage Suppressor, 51.0Vr, SMA(DO-214AC); ki_fp_filters: D*SMA*; Footprint: Diode_SMD:D_SMA; Datasheet: https://www.littelfuse.com/media?resourcetype=datasheets&itemid=75e32973-b177-4ee3-a0ff-cedaf1abdb93&filename=smaj-datasheet
pins: 1 A1, 2 A2

## SMAJ54A
designator *  value SMAJ54A  Reference: D
ki_keywords: unidirectional diode TVS voltage suppressor; ki_description: 400W unidirectional Transient Voltage Suppressor, 54.0Vr, SMA(DO-214AC); ki_fp_filters: D*SMA*; Footprint: Diode_SMD:D_SMA; Datasheet: https://www.littelfuse.com/media?resourcetype=datasheets&itemid=75e32973-b177-4ee3-a0ff-cedaf1abdb93&filename=smaj-datasheet
pins: 1 A1, 2 A2

## SMAJ54CA
designator *  value SMAJ54CA  Reference: D
ki_keywords: bidirectional diode TVS voltage suppressor; ki_description: 400W bidirectional Transient Voltage Suppressor, 54.0Vr, SMA(DO-214AC); ki_fp_filters: D*SMA*; Footprint: Diode_SMD:D_SMA; Datasheet: https://www.littelfuse.com/media?resourcetype=datasheets&itemid=75e32973-b177-4ee3-a0ff-cedaf1abdb93&filename=smaj-datasheet
pins: 1 A1, 2 A2

## SMAJ58A
designator *  value SMAJ58A  Reference: D
ki_keywords: unidirectional diode TVS voltage suppressor; ki_description: 400W unidirectional Transient Voltage Suppressor, 58.0Vr, SMA(DO-214AC); ki_fp_filters: D*SMA*; Footprint: Diode_SMD:D_SMA; Datasheet: https://www.littelfuse.com/media?resourcetype=datasheets&itemid=75e32973-b177-4ee3-a0ff-cedaf1abdb93&filename=smaj-datasheet
pins: 1 A1, 2 A2

## SMAJ58CA
designator *  value SMAJ58CA  Reference: D
ki_keywords: bidirectional diode TVS voltage suppressor; ki_description: 400W bidirectional Transient Voltage Suppressor, 58.0Vr, SMA(DO-214AC); ki_fp_filters: D*SMA*; Footprint: Diode_SMD:D_SMA; Datasheet: https://www.littelfuse.com/media?resourcetype=datasheets&itemid=75e32973-b177-4ee3-a0ff-cedaf1abdb93&filename=smaj-datasheet
pins: 1 A1, 2 A2

## SMAJ60A
designator *  value SMAJ60A  Reference: D
ki_keywords: unidirectional diode TVS voltage suppressor; ki_description: 400W unidirectional Transient Voltage Suppressor, 60.0Vr, SMA(DO-214AC); ki_fp_filters: D*SMA*; Footprint: Diode_SMD:D_SMA; Datasheet: https://www.littelfuse.com/media?resourcetype=datasheets&itemid=75e32973-b177-4ee3-a0ff-cedaf1abdb93&filename=smaj-datasheet
pins: 1 A1, 2 A2

## SMAJ60CA
designator *  value SMAJ60CA  Reference: D
ki_keywords: bidirectional diode TVS voltage suppressor; ki_description: 400W bidirectional Transient Voltage Suppressor, 60.0Vr, SMA(DO-214AC); ki_fp_filters: D*SMA*; Footprint: Diode_SMD:D_SMA; Datasheet: https://www.littelfuse.com/media?resourcetype=datasheets&itemid=75e32973-b177-4ee3-a0ff-cedaf1abdb93&filename=smaj-datasheet
pins: 1 A1, 2 A2

## SMAJ64A
designator *  value SMAJ64A  Reference: D
ki_keywords: unidirectional diode TVS voltage suppressor; ki_description: 400W unidirectional Transient Voltage Suppressor, 64.0Vr, SMA(DO-214AC); ki_fp_filters: D*SMA*; Footprint: Diode_SMD:D_SMA; Datasheet: https://www.littelfuse.com/media?resourcetype=datasheets&itemid=75e32973-b177-4ee3-a0ff-cedaf1abdb93&filename=smaj-datasheet
pins: 1 A1, 2 A2

## SMAJ64CA
designator *  value SMAJ64CA  Reference: D
ki_keywords: bidirectional diode TVS voltage suppressor; ki_description: 400W bidirectional Transient Voltage Suppressor, 64.0Vr, SMA(DO-214AC); ki_fp_filters: D*SMA*; Footprint: Diode_SMD:D_SMA; Datasheet: https://www.littelfuse.com/media?resourcetype=datasheets&itemid=75e32973-b177-4ee3-a0ff-cedaf1abdb93&filename=smaj-datasheet
pins: 1 A1, 2 A2

## SMAJ70A
designator *  value SMAJ70A  Reference: D
ki_keywords: unidirectional diode TVS voltage suppressor; ki_description: 400W unidirectional Transient Voltage Suppressor, 70.0Vr, SMA(DO-214AC); ki_fp_filters: D*SMA*; Footprint: Diode_SMD:D_SMA; Datasheet: https://www.littelfuse.com/media?resourcetype=datasheets&itemid=75e32973-b177-4ee3-a0ff-cedaf1abdb93&filename=smaj-datasheet
pins: 1 A1, 2 A2

## SMAJ70CA
designator *  value SMAJ70CA  Reference: D
ki_keywords: bidirectional diode TVS voltage suppressor; ki_description: 400W bidirectional Transient Voltage Suppressor, 70.0Vr, SMA(DO-214AC); ki_fp_filters: D*SMA*; Footprint: Diode_SMD:D_SMA; Datasheet: https://www.littelfuse.com/media?resourcetype=datasheets&itemid=75e32973-b177-4ee3-a0ff-cedaf1abdb93&filename=smaj-datasheet
pins: 1 A1, 2 A2

## SMAJ75A
designator *  value SMAJ75A  Reference: D
ki_keywords: unidirectional diode TVS voltage suppressor; ki_description: 400W unidirectional Transient Voltage Suppressor, 75.0Vr, SMA(DO-214AC); ki_fp_filters: D*SMA*; Footprint: Diode_SMD:D_SMA; Datasheet: https://www.littelfuse.com/media?resourcetype=datasheets&itemid=75e32973-b177-4ee3-a0ff-cedaf1abdb93&filename=smaj-datasheet
pins: 1 A1, 2 A2

## SMAJ75CA
designator *  value SMAJ75CA  Reference: D
ki_keywords: bidirectional diode TVS voltage suppressor; ki_description: 400W bidirectional Transient Voltage Suppressor, 75.0Vr, SMA(DO-214AC); ki_fp_filters: D*SMA*; Footprint: Diode_SMD:D_SMA; Datasheet: https://www.littelfuse.com/media?resourcetype=datasheets&itemid=75e32973-b177-4ee3-a0ff-cedaf1abdb93&filename=smaj-datasheet
pins: 1 A1, 2 A2

## SMAJ78A
designator *  value SMAJ78A  Reference: D
ki_keywords: unidirectional diode TVS voltage suppressor; ki_description: 400W unidirectional Transient Voltage Suppressor, 78.0Vr, SMA(DO-214AC); ki_fp_filters: D*SMA*; Footprint: Diode_SMD:D_SMA; Datasheet: https://www.littelfuse.com/media?resourcetype=datasheets&itemid=75e32973-b177-4ee3-a0ff-cedaf1abdb93&filename=smaj-datasheet
pins: 1 A1, 2 A2

## SMAJ78CA
designator *  value SMAJ78CA  Reference: D
ki_keywords: bidirectional diode TVS voltage suppressor; ki_description: 400W bidirectional Transient Voltage Suppressor, 78.0Vr, SMA(DO-214AC); ki_fp_filters: D*SMA*; Footprint: Diode_SMD:D_SMA; Datasheet: https://www.littelfuse.com/media?resourcetype=datasheets&itemid=75e32973-b177-4ee3-a0ff-cedaf1abdb93&filename=smaj-datasheet
pins: 1 A1, 2 A2

## SMAJ85A
designator *  value SMAJ85A  Reference: D
ki_keywords: unidirectional diode TVS voltage suppressor; ki_description: 400W unidirectional Transient Voltage Suppressor, 85.0Vr, SMA(DO-214AC); ki_fp_filters: D*SMA*; Footprint: Diode_SMD:D_SMA; Datasheet: https://www.littelfuse.com/media?resourcetype=datasheets&itemid=75e32973-b177-4ee3-a0ff-cedaf1abdb93&filename=smaj-datasheet
pins: 1 A1, 2 A2

## SMAJ85CA
designator *  value SMAJ85CA  Reference: D
ki_keywords: bidirectional diode TVS voltage suppressor; ki_description: 400W bidirectional Transient Voltage Suppressor, 85.0Vr, SMA(DO-214AC); ki_fp_filters: D*SMA*; Footprint: Diode_SMD:D_SMA; Datasheet: https://www.littelfuse.com/media?resourcetype=datasheets&itemid=75e32973-b177-4ee3-a0ff-cedaf1abdb93&filename=smaj-datasheet
pins: 1 A1, 2 A2

## SMAJ90A
designator *  value SMAJ90A  Reference: D
ki_keywords: unidirectional diode TVS voltage suppressor; ki_description: 400W unidirectional Transient Voltage Suppressor, 90.0Vr, SMA(DO-214AC); ki_fp_filters: D*SMA*; Footprint: Diode_SMD:D_SMA; Datasheet: https://www.littelfuse.com/media?resourcetype=datasheets&itemid=75e32973-b177-4ee3-a0ff-cedaf1abdb93&filename=smaj-datasheet
pins: 1 A1, 2 A2

## SMAJ90CA
designator *  value SMAJ90CA  Reference: D
ki_keywords: bidirectional diode TVS voltage suppressor; ki_description: 400W bidirectional Transient Voltage Suppressor, 90.0Vr, SMA(DO-214AC); ki_fp_filters: D*SMA*; Footprint: Diode_SMD:D_SMA; Datasheet: https://www.littelfuse.com/media?resourcetype=datasheets&itemid=75e32973-b177-4ee3-a0ff-cedaf1abdb93&filename=smaj-datasheet
pins: 1 A1, 2 A2

## SMAJ100A
designator *  value SMAJ100A  Reference: D
ki_keywords: unidirectional diode TVS voltage suppressor; ki_description: 400W unidirectional Transient Voltage Suppressor, 100.0Vr, SMA(DO-214AC); ki_fp_filters: D*SMA*; Footprint: Diode_SMD:D_SMA; Datasheet: https://www.littelfuse.com/media?resourcetype=datasheets&itemid=75e32973-b177-4ee3-a0ff-cedaf1abdb93&filename=smaj-datasheet
pins: 1 A1, 2 A2

## SMAJ100CA
designator *  value SMAJ100CA  Reference: D
ki_keywords: bidirectional diode TVS voltage suppressor; ki_description: 400W bidirectional Transient Voltage Suppressor, 100.0Vr, SMA(DO-214AC); ki_fp_filters: D*SMA*; Footprint: Diode_SMD:D_SMA; Datasheet: https://www.littelfuse.com/media?resourcetype=datasheets&itemid=75e32973-b177-4ee3-a0ff-cedaf1abdb93&filename=smaj-datasheet
pins: 1 A1, 2 A2

## SMAJ110A
designator *  value SMAJ110A  Reference: D
ki_keywords: unidirectional diode TVS voltage suppressor; ki_description: 400W unidirectional Transient Voltage Suppressor, 110.0Vr, SMA(DO-214AC); ki_fp_filters: D*SMA*; Footprint: Diode_SMD:D_SMA; Datasheet: https://www.littelfuse.com/media?resourcetype=datasheets&itemid=75e32973-b177-4ee3-a0ff-cedaf1abdb93&filename=smaj-datasheet
pins: 1 A1, 2 A2

## SMAJ110CA
designator *  value SMAJ110CA  Reference: D
ki_keywords: bidirectional diode TVS voltage suppressor; ki_description: 400W bidirectional Transient Voltage Suppressor, 110.0Vr, SMA(DO-214AC); ki_fp_filters: D*SMA*; Footprint: Diode_SMD:D_SMA; Datasheet: https://www.littelfuse.com/media?resourcetype=datasheets&itemid=75e32973-b177-4ee3-a0ff-cedaf1abdb93&filename=smaj-datasheet
pins: 1 A1, 2 A2

## SMAJ120A
designator *  value SMAJ120A  Reference: D
ki_keywords: unidirectional diode TVS voltage suppressor; ki_description: 400W unidirectional Transient Voltage Suppressor, 120.0Vr, SMA(DO-214AC); ki_fp_filters: D*SMA*; Footprint: Diode_SMD:D_SMA; Datasheet: https://www.littelfuse.com/media?resourcetype=datasheets&itemid=75e32973-b177-4ee3-a0ff-cedaf1abdb93&filename=smaj-datasheet
pins: 1 A1, 2 A2

## SMAJ120CA
designator *  value SMAJ120CA  Reference: D
ki_keywords: bidirectional diode TVS voltage suppressor; ki_description: 400W bidirectional Transient Voltage Suppressor, 120.0Vr, SMA(DO-214AC); ki_fp_filters: D*SMA*; Footprint: Diode_SMD:D_SMA; Datasheet: https://www.littelfuse.com/media?resourcetype=datasheets&itemid=75e32973-b177-4ee3-a0ff-cedaf1abdb93&filename=smaj-datasheet
pins: 1 A1, 2 A2

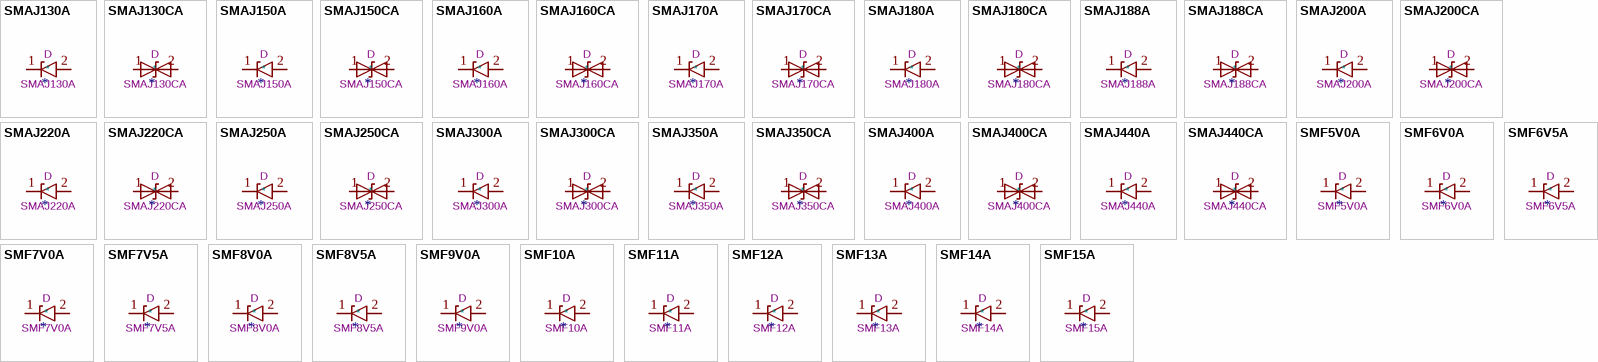
[diagram p16: symbols SMAJ130A to SMF15A]

## SMAJ130A
designator *  value SMAJ130A  Reference: D
ki_keywords: unidirectional diode TVS voltage suppressor; ki_description: 400W unidirectional Transient Voltage Suppressor, 130.0Vr, SMA(DO-214AC); ki_fp_filters: D*SMA*; Footprint: Diode_SMD:D_SMA; Datasheet: https://www.littelfuse.com/media?resourcetype=datasheets&itemid=75e32973-b177-4ee3-a0ff-cedaf1abdb93&filename=smaj-datasheet
pins: 1 A1, 2 A2

## SMAJ130CA
designator *  value SMAJ130CA  Reference: D
ki_keywords: bidirectional diode TVS voltage suppressor; ki_description: 400W bidirectional Transient Voltage Suppressor, 130.0Vr, SMA(DO-214AC); ki_fp_filters: D*SMA*; Footprint: Diode_SMD:D_SMA; Datasheet: https://www.littelfuse.com/media?resourcetype=datasheets&itemid=75e32973-b177-4ee3-a0ff-cedaf1abdb93&filename=smaj-datasheet
pins: 1 A1, 2 A2

## SMAJ150A
designator *  value SMAJ150A  Reference: D
ki_keywords: unidirectional diode TVS voltage suppressor; ki_description: 400W unidirectional Transient Voltage Suppressor, 150.0Vr, SMA(DO-214AC); ki_fp_filters: D*SMA*; Footprint: Diode_SMD:D_SMA; Datasheet: https://www.littelfuse.com/media?resourcetype=datasheets&itemid=75e32973-b177-4ee3-a0ff-cedaf1abdb93&filename=smaj-datasheet
pins: 1 A1, 2 A2

## SMAJ150CA
designator *  value SMAJ150CA  Reference: D
ki_keywords: bidirectional diode TVS voltage suppressor; ki_description: 400W bidirectional Transient Voltage Suppressor, 150.0Vr, SMA(DO-214AC); ki_fp_filters: D*SMA*; Footprint: Diode_SMD:D_SMA; Datasheet: https://www.littelfuse.com/media?resourcetype=datasheets&itemid=75e32973-b177-4ee3-a0ff-cedaf1abdb93&filename=smaj-datasheet
pins: 1 A1, 2 A2

## SMAJ160A
designator *  value SMAJ160A  Reference: D
ki_keywords: unidirectional diode TVS voltage suppressor; ki_description: 400W unidirectional Transient Voltage Suppressor, 160.0Vr, SMA(DO-214AC); ki_fp_filters: D*SMA*; Footprint: Diode_SMD:D_SMA; Datasheet: https://www.littelfuse.com/media?resourcetype=datasheets&itemid=75e32973-b177-4ee3-a0ff-cedaf1abdb93&filename=smaj-datasheet
pins: 1 A1, 2 A2

## SMAJ160CA
designator *  value SMAJ160CA  Reference: D
ki_keywords: bidirectional diode TVS voltage suppressor; ki_description: 400W bidirectional Transient Voltage Suppressor, 160.0Vr, SMA(DO-214AC); ki_fp_filters: D*SMA*; Footprint: Diode_SMD:D_SMA; Datasheet: https://www.littelfuse.com/media?resourcetype=datasheets&itemid=75e32973-b177-4ee3-a0ff-cedaf1abdb93&filename=smaj-datasheet
pins: 1 A1, 2 A2

## SMAJ170A
designator *  value SMAJ170A  Reference: D
ki_keywords: unidirectional diode TVS voltage suppressor; ki_description: 400W unidirectional Transient Voltage Suppressor, 170.0Vr, SMA(DO-214AC); ki_fp_filters: D*SMA*; Footprint: Diode_SMD:D_SMA; Datasheet: https://www.littelfuse.com/media?resourcetype=datasheets&itemid=75e32973-b177-4ee3-a0ff-cedaf1abdb93&filename=smaj-datasheet
pins: 1 A1, 2 A2

## SMAJ170CA
designator *  value SMAJ170CA  Reference: D
ki_keywords: bidirectional diode TVS voltage suppressor; ki_description: 400W bidirectional Transient Voltage Suppressor, 170.0Vr, SMA(DO-214AC); ki_fp_filters: D*SMA*; Footprint: Diode_SMD:D_SMA; Datasheet: https://www.littelfuse.com/media?resourcetype=datasheets&itemid=75e32973-b177-4ee3-a0ff-cedaf1abdb93&filename=smaj-datasheet
pins: 1 A1, 2 A2